# Altium footprint library CASR25-NP.PcbLib: 1 footprints
Each footprint in its own frame and in the unit in brackets; x right, y up, seen from the top. Pads: shape width x height; smd on the part's side, far side on the other; paste and mask are expansions set on the pad; w line width, h text height; cw(c..) or ccw(c..) is an arc to the next point about the centre after c.
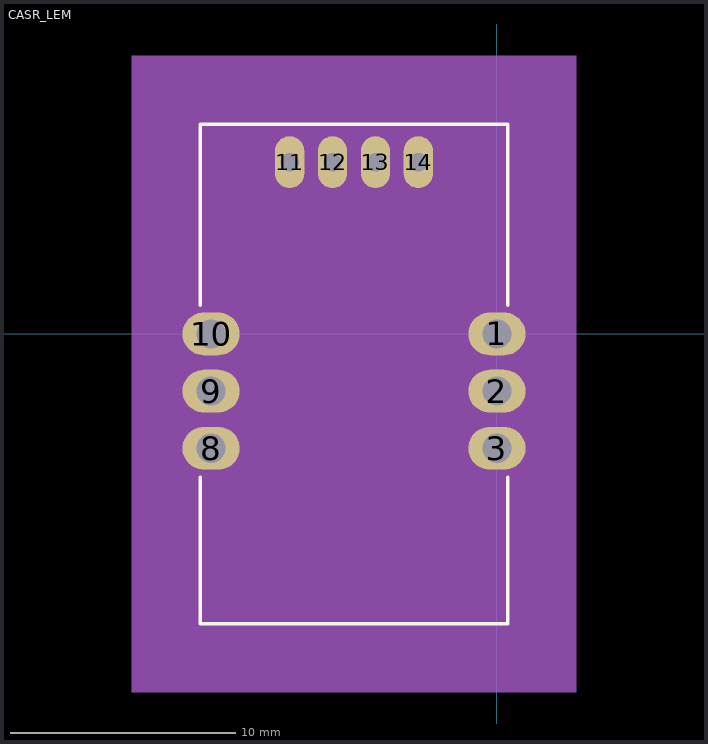
[diagram p0: the footprint, top view; thin cyan lines are the x and y axes]

## CASR_LEM [mil]
pads (10):
  oval 100x75 hole 51 mask+0: 1(0,0) 2(0,-100) 3(0,-200) 8(-500,-200) 9(-500,-100) 10(-500,0)
  oval 51x91 hole 32 mask+0: 11(-362.5,300.39) 12(-287.5,300.39) 13(-212.5,300.39) 14(-137.5,300.39)
Top Overlay:
  lines w6: -519,-250.18 -519,-506.58 19,-506.58 19,-250.18 ; -519,50.18 -519,366.42 19,366.42 19,50.18
Mechanical 5:
  region: -639,486.42 139,486.42 139,-626.58 -639,-626.58
Mechanical 13:
  lines w1: -574,300.39 -524,300.39 ; -549,275.39 -549,300.39 ; -514,-501.58 14,-501.58 14,361.42 -514,361.42 -514,-501.58
Mechanical 15:
  region: -558,-43.5 -519.22,-43.5 -519.22,-56.5 -558,-56.5 -558,-143.5 -519.22,-143.5 -519.22,-156.5 -558,-156.5 -558,-243.5 -519.22,-243.5 -519.22,-510.11 19.22,-510.11 19.22,-243.5 58,-243.5 58,-156.5 19.22,-156.5 19.22,-143.5 58,-143.5 58,-56.5 19.22,-56.5 19.22,-43.5 58,-43.5 58,43.5 19.22,43.5 19.22,369.95 -519.22,369.95 -519.22,43.5 -558,43.5
  lines w6: -558,-243.5 -558,-156.5 -519.22,-156.5 -519.22,-143.5 -558,-143.5 -558,-56.5 -519.22,-56.5 -519.22,-43.5 -558,-43.5 -558,43.5 -519.22,43.5 -519.22,369.95 19.22,369.95 19.22,43.5 58,43.5 58,-43.5 19.22,-43.5 19.22,-56.5 58,-56.5 58,-143.5 19.22,-143.5 19.22,-156.5 58,-156.5 58,-243.5 19.22,-243.5 19.22,-510.11 -519.22,-510.11 -519.22,-243.5 -558,-243.5
3D body: height 10, standoff 0, extent 0,0 10,10